# Altium footprint library Connectors.PcbLib: 19 footprints (part 2 of 2)
Each footprint in its own frame and in the unit in brackets; x right, y up, seen from the top. Pads: shape width x height; smd on the part's side, far side on the other; paste and mask are expansions set on the pad; w line width, h text height; cw(c..) or ccw(c..) is an arc to the next point about the centre after c.
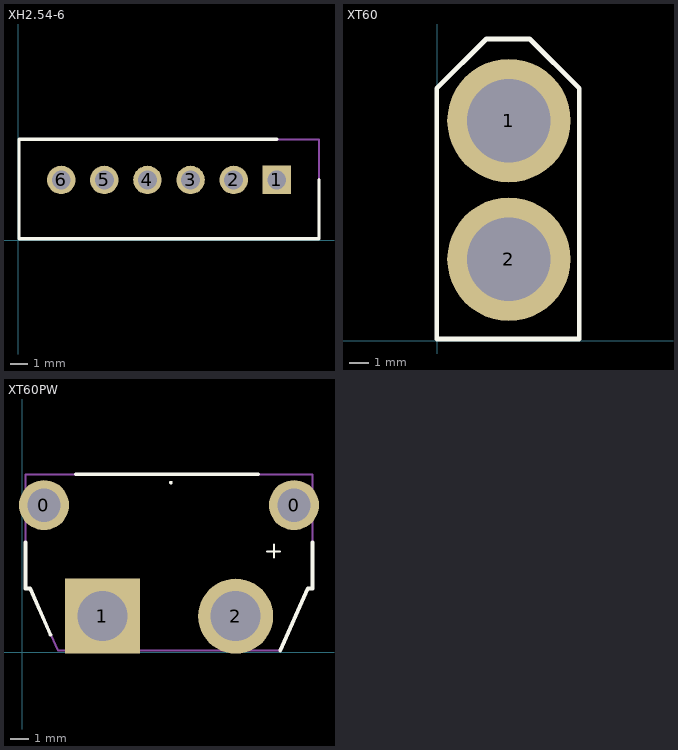
[diagram p1: the footprints below, top view; thin cyan lines are the x and y axes]

## XH2.54-6 [mm]
pads (6):
  rect 1.65x1.65 / inner round 1.65 / far side rect 1.65x1.65 hole 1.1: 1(15,3.5)
  round 1.65 hole 1.1: 2(12.5,3.5) 3(10,3.5) 4(7.5,3.5) 5(5,3.5) 6(2.5,3.5)
Top Overlay:
  lines w0.2: 15,5.85 0.05,5.85 0.05,0.1 17.45,0.1 17.45,3.5
Top Courtyard:
  lines w0.1: 0.05,0.1 17.45,0.1 17.45,5.85 0.05,5.85 0.05,0.1
3D body "B6B-XH-A_LF__SN_.stp": height 7, standoff -3.4, extent 0,0.05 17.4,5.8

## XT60 [mm]
pads (2):
  round 6.5 hole 4.4: 1(3.787,11.588) 2(3.787,4.288)
Top Overlay:
  lines w0.254: -0.013,0.088 -0.013,12.788 -0.013,12.988 -0.013,13.288 2.587,15.888 4.887,15.888 7.487,13.288 7.487,12.988 7.487,12.788 7.487,0.088 -0.013,0.088
3D body "XT60FemaleConnector.STEP": height 16, standoff -4.5, extent 0.037,-0.312 7.537,16.238

## XT60PW [mm]
pads (4):
  round 2.7 hole 1.8: 0(1.175,7.936) 0(14.675,7.936)
  rect 4.05x4.05 hole 2.7: 1(4.325,1.936)
  round 4.05 hole 2.7: 2(11.525,1.936)
Top Overlay:
  lines w0.1: 13.223,5.437 13.923,5.437 ; 13.6,5.1 13.6,5.8 ; 8.027,9.101 ccw(c8.027,9.151) 8.027,9.201 ccw(c8.027,9.151) 8.027,9.101
  lines w0.2: 0.175,5.936 0.175,3.436 0.425,3.436 1.525,0.936 ; 2.9,9.6 12.75,9.6 ; 13.925,0.086 15.425,3.436 15.675,3.436 15.675,5.936
Top Courtyard:
  lines w0.1: 0.175,3.436 0.175,9.586 15.675,9.586 15.675,6.936 15.675,5.436 15.675,3.436 15.425,3.436 13.925,0.086 8.925,0.086 1.925,0.086 0.425,3.436 0.175,3.436
3D body "XT60FemaleConnector.STEP": height 16, standoff -4.5, extent -0.25,0.1 16.3,7.6